# EAGLE library part SGTL5000XNA (library IC_Interface)
Low Power Stereo Codec with Headphone Amp Datasheet <https://www.nxp.com/docs/en/data-sheet/SGTL5000.pdf>
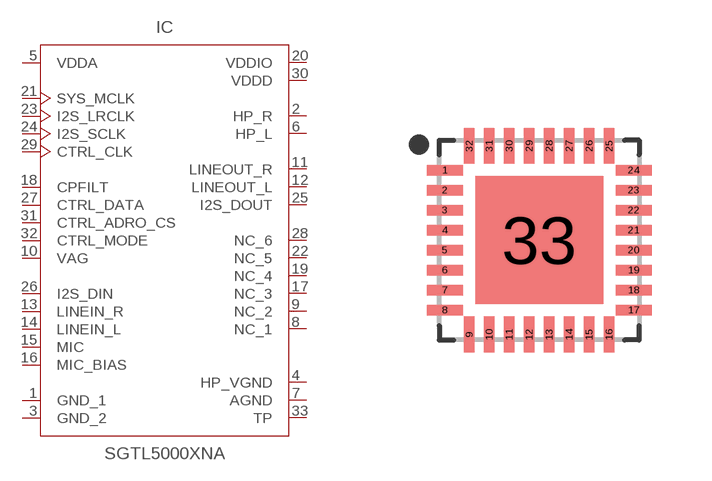
[diagram p14: symbol with the pads of QFN50P485X485X100-33T320N; footprint QFN50P485X485X100-33T320N]

Designator prefix IC

## SGTL5000XNA (CATEGORY: IC_Interface; DESCRIPTION: Interface - CODECs Audio Codec; MANUFACTURER: NXP Semiconductors; MPN: SGTL5000XNAA3; OPERATING_TEMPERATURE: -40 C to 85 C; ROHS_COMPLIANT: COMPLIANT; SERIES: SGTL5000; SUB_CATEGORY: Audio CODEC; TYPE: Audio CODEC, Stereo; VALUE: SGTL5000)  [QFN50P485X485X100-33T320N]
1  GND_1
2  HP_R
3  GND_2
4  HP_VGND
5  VDDA  pwr
6  HP_L
7  AGND
8  NC_1  nc
9  NC_2  nc
10  VAG
11  LINEOUT_R
12  LINEOUT_L
13  LINEIN_R
14  LINEIN_L
15  MIC
16  MIC_BIAS
17  NC_3
18  CPFILT
19  NC_4  nc
20  VDDIO  pwr
21  SYS_MCLK
22  NC_5
23  I2S_LRCLK
24  I2S_SCLK
25  I2S_DOUT
26  I2S_DIN
27  CTRL_DATA
28  NC_6  nc
29  CTRL_CLK
30  VDDD  pwr
31  CTRL_ADRO_CS
32  CTRL_MODE
33  TP

## Footprint QFN50P485X485X100-33T320N (pad centres in mm)
32-QFN, 0.50 mm pitch, 4.85 X 4.85 X 1.00 mm body, 3.20 X 3.20 mm thermal pad 32-pin QFN package with 0.50 mm pitch with body size 4.85 X 4.85 X 1.00 mm and thermal pad size 3.20 X 3.20 mm
smd 0.896 x 0.264: 1 -2.362,1.75; 2 -2.362,1.25; 3 -2.362,0.75; 4 -2.362,0.25; 5 -2.362,-0.25; 6 -2.362,-0.75; 7 -2.362,-1.25; 8 -2.362,-1.75; 17 2.362,-1.75; 18 2.362,-1.25; 19 2.362,-0.75; 20 2.362,-0.25; 21 2.362,0.25; 22 2.362,0.75; 23 2.362,1.25; 24 2.362,1.75
smd 0.264 x 0.896: 9 -1.75,-2.362; 10 -1.25,-2.362; 11 -0.75,-2.362; 12 -0.25,-2.362; 13 0.25,-2.362; 14 0.75,-2.362; 15 1.25,-2.362; 16 1.75,-2.362; 25 1.75,2.362; 26 1.25,2.362; 27 0.75,2.362; 28 0.25,2.362; 29 -0.25,2.362; 30 -0.75,2.362; 31 -1.25,2.362; 32 -1.75,2.362
smd 3.2 x 3.2: 33 0,0